# Altium schematic symbol library CapChipCer.SchLib: 223 symbols (part 1 of 2)
Pins are listed as number, name and electrical type; pins without a type are passive.

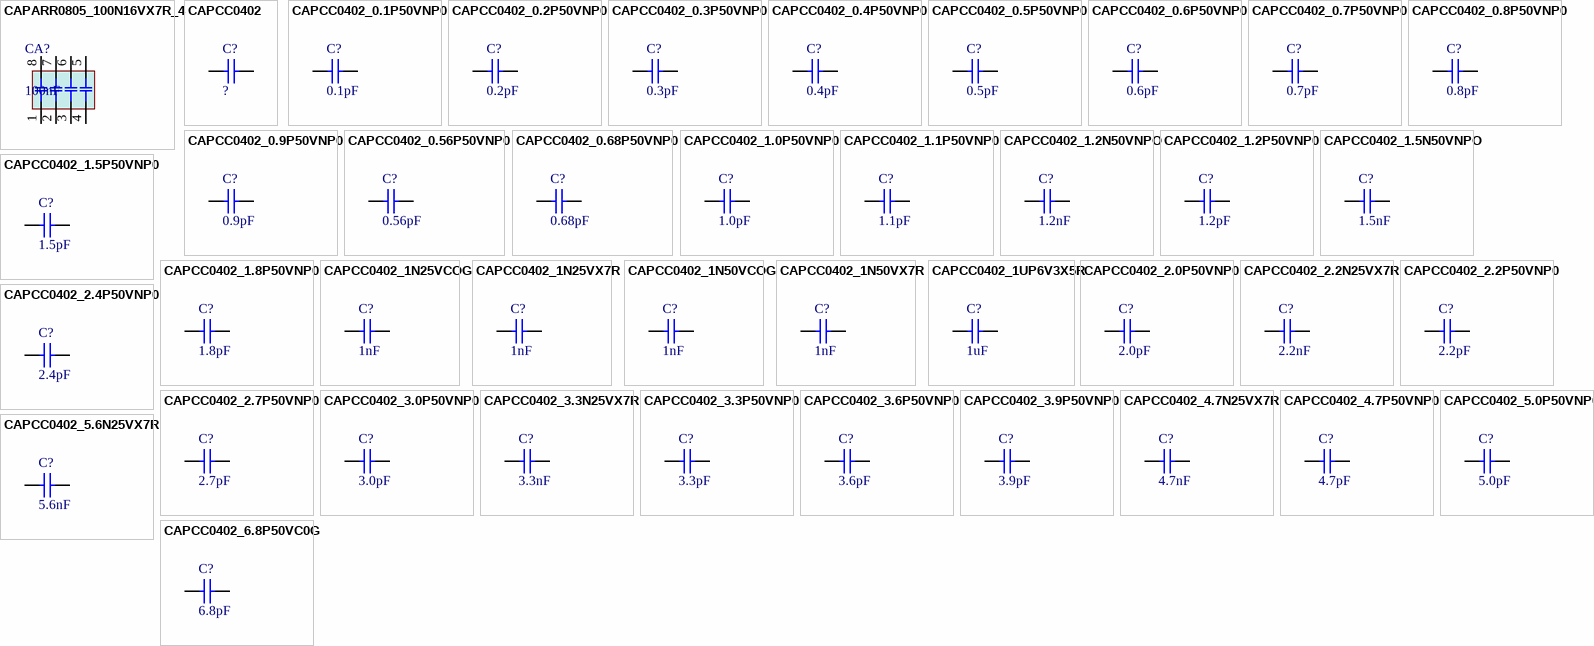
[diagram p0: symbols CAPARR0805_100N16VX7R_4 to CAPCC0402_6.8P50VC0G]

## CAPARR0805_100N16VX7R_4
designator CA?, comment 100nF
Capacitor chip ceramic array 0805; Manufacturer: Murata; Manufacturer No: GNM214R71C104MA01D; Comment2: x4 16V X7R; Sort: 210; Tech: SMDR; Package: Cap Chip Array 0805; Price: 0.28; Supplier: Digi-Key; Supplier No: 490-6082-1-ND
footprint CCAR0805 (Chip capacitor  array 0805)
pins: 1, 2, 3, 4, 5, 6, 7, 8

## CAPCC0402
designator C?, comment ?
Capacitor chip ceramic 0402; Comment2: xxV X7R; Sort: 210; Tech: SMDR; Package: Cap Chip 0402; Price: 0
footprint CC0402-1 (Chip kondenzator 0402)
signal-integrity model Model Name (Model Description)
footprint CC0402RF1 (Chip capacitor 0402 RF pad)
footprint CC0402RF1R (Chip capacitor 0402 RF ROUND pad)
pins: 1, 2

## CAPCC0402_0.1P50VNP0
designator C?, comment 0.1pF
Capacitor chip ceramic 0402; Comment2: 50V NP0 +-0.05pF; Sort: 210; Tech: SMDR; Package: Cap Chip 0402; Price: 0
footprint CC0402-1 (Chip capacitor 0402)
signal-integrity model Model Name (Model Description)
footprint CC0402RF1 (Chip capacitor 0402 RF pad)
pins: 1, 2

## CAPCC0402_0.2P50VNP0
designator C?, comment 0.2pF
Capacitor chip ceramic 0402; Manufacturer: Johanson Technology, Farnell; Manufacturer No: 500R07S0R2AV4T, 1650776; Comment2: 50V NP0 +-0.05pF; Sort: 210; Tech: SMDR; Package: Cap Chip 0402; Price: 0
footprint CC0402-1 (Chip capacitor 0402)
signal-integrity model Model Name (Model Description)
footprint CC0402RF1 (Chip capacitor 0402 RF pad)
pins: 1, 2

## CAPCC0402_0.3P50VNP0
designator C?, comment 0.3pF
Capacitor chip ceramic 0402; Manufacturer: Johanson Technology, Farnell; Manufacturer No: 500R07S0R3AV4T, 1433461; Comment2: 25V NP0 +-0.05pF; Sort: 210; Tech: SMDR; Package: Cap Chip 0402; Price: 0
footprint CC0402-1 (Chip capacitor 0402)
signal-integrity model Model Name (Model Description)
footprint CC0402RF1 (Chip capacitor 0402 RF pad)
pins: 1, 2

## CAPCC0402_0.4P50VNP0
designator C?, comment 0.4pF
Capacitor chip ceramic 0402; Manufacturer: Johanson Technology, Farnell; Manufacturer No: 500R07S0R4AV4T, 1692278; Comment2: 50V NP0 +-0.05pF; Sort: 210; Tech: SMDR; Package: Cap Chip 0402; Price: 0
footprint CC0402-1 (Chip capacitor 0402)
signal-integrity model Model Name (Model Description)
footprint CC0402RF1 (Chip capacitor 0402 RF pad)
pins: 1, 2

## CAPCC0402_0.5P50VNP0
designator C?, comment 0.5pF
Capacitor chip ceramic 0402; Manufacturer: Johanson Technology, Farnell; Manufacturer No: 500R07S0R5AV4T, 1650777; Comment2: 50V NP0 +-0.05pF; Sort: 210; Tech: SMDR; Package: Cap Chip 0402; Price: 0
footprint CC0402-1 (Chip capacitor 0402)
signal-integrity model Model Name (Model Description)
footprint CC0402RF1 (Chip capacitor 0402 RF pad)
pins: 1, 2

## CAPCC0402_0.6P50VNP0
designator C?, comment 0.6pF
Capacitor chip ceramic 0402; Manufacturer: Johanson Technology, Farnell; Manufacturer No: 500R07S0R6AV4T, 1434383; Comment2: 50V NP0 +-0.05pF; Sort: 210; Tech: SMDR; Package: Cap Chip 0402; Price: 0
footprint CC0402-1 (Chip capacitor 0402)
signal-integrity model Model Name (Model Description)
footprint CC0402RF1 (Chip capacitor 0402 RF pad)
pins: 1, 2

## CAPCC0402_0.7P50VNP0
designator C?, comment 0.7pF
Capacitor chip ceramic 0402; Manufacturer: Johanson Technology, Farnell; Manufacturer No: 500R07S0R7AV4T, 1650778; Comment2: 50V NP0 +-0.05pF; Sort: 210; Tech: SMDR; Package: Cap Chip 0402; Price: 0
footprint CC0402-1 (Chip capacitor 0402)
signal-integrity model Model Name (Model Description)
footprint CC0402RF1 (Chip capacitor 0402 RF pad)
pins: 1, 2

## CAPCC0402_0.8P50VNP0
designator C?, comment 0.8pF
Capacitor chip ceramic 0402; Manufacturer: Johanson Technology, Farnell; Manufacturer No: 500R07S0R8AV4T, 1436779; Comment2: 50V NP0 +-0.05pF; Sort: 210; Tech: SMDR; Package: Cap Chip 0402; Price: 0
footprint CC0402-1 (Chip capacitor 0402)
signal-integrity model Model Name (Model Description)
footprint CC0402RF1 (Chip capacitor 0402 RF pad)
pins: 1, 2

## CAPCC0402_0.9P50VNP0
designator C?, comment 0.9pF
Capacitor chip ceramic 0402; Manufacturer: Johanson Technology, Farnell; Manufacturer No: 500R07S0R9BV4T, 1433661; Comment2: 50V NP0 +-0.1pF; Sort: 210; Tech: SMDR; Package: Cap Chip 0402; Price: 0
footprint CC0402-1 (Chip capacitor 0402)
signal-integrity model Model Name (Model Description)
footprint CC0402RF1 (Chip capacitor 0402 RF pad)
pins: 1, 2

## CAPCC0402_0.56P50VNP0
designator C?, comment 0.56pF
Capacitor chip ceramic 0402; Manufacturer: YAGEO (PHYCOMP), Farnell; Manufacturer No: CC0402CRNPO9BNR56, 3019093; Comment2: 50V NP0 +-5%; Sort: 210; Tech: SMDR; Package: Cap Chip 0402; Price: 0
footprint CC0402-1 (Chip capacitor 0402)
signal-integrity model Model Name (Model Description)
footprint CC0402RF1 (Chip capacitor 0402 RF pad)
pins: 1, 2

## CAPCC0402_0.68P50VNP0
designator C?, comment 0.68pF
Capacitor chip ceramic 0402; Comment2: 50V NP0 +-5%; Sort: 210; Tech: SMDR; Package: Cap Chip 0402; Price: 0
footprint CC0402-1 (Chip capacitor 0402)
signal-integrity model Model Name (Model Description)
footprint CC0402RF1 (Chip capacitor 0402 RF pad)
pins: 1, 2

## CAPCC0402_1.0P50VNP0
designator C?, comment 1.0pF
Capacitor chip ceramic 0402; Manufacturer: Murata; Manufacturer No: GRM1555C1H1R0CA01D; Comment2: 50V NP0 +-0.1pF; Sort: 210; Tech: SMDR; Package: Cap Chip 0402; Price: 0.1; Supplier: Digi-Key; Supplier No: 490-3199-1-ND
footprint CC0402-1 (Chip capacitor 0402)
signal-integrity model Model Name (Model Description)
footprint CC0402RF1 (Chip capacitor 0402 RF pad)
pins: 1, 2

## CAPCC0402_1.1P50VNP0
designator C?, comment 1.1pF
Capacitor chip ceramic 0402; Manufacturer: Johanson Technology, Farnell; Manufacturer No: 500R07S1R1BV4T, 1434385; Comment2: 50V NP0 +-0.1pF; Sort: 210; Tech: SMDR; Package: Cap Chip 0402; Price: 0
footprint CC0402-1 (Chip capacitor 0402)
signal-integrity model Model Name (Model Description)
footprint CC0402RF1 (Chip capacitor 0402 RF pad)
pins: 1, 2

## CAPCC0402_1.2N50VNPO
designator C?, comment 1.2nF
Capacitor chip ceramic 0402; Manufacturer: Kemet, Farnell; Manufacturer No: C0402C122J5GACTU, 1800803; Comment2: 50V NPO 5%; Sort: 210; Tech: SMDR; Package: Cap Chip 0402; Price: 0
footprint CC0402-1 (Chip capacitor 0402)
signal-integrity model Model Name (Model Description)
footprint CC0402RF1 (Chip capacitor 0402 RF pad)
pins: 1, 2

## CAPCC0402_1.2P50VNP0
designator C?, comment 1.2pF
Capacitor chip ceramic 0402; Manufacturer: Johanson Technology, Farnell; Manufacturer No: 500R07S1R2BV4T, 1650785; Comment2: 50V NP0 +-0.1pF; Sort: 210; Tech: SMDR; Package: Cap Chip 0402; Price: 0
footprint CC0402-1 (Chip capacitor 0402)
signal-integrity model Model Name (Model Description)
footprint CC0402RF1 (Chip capacitor 0402 RF pad)
pins: 1, 2

## CAPCC0402_1.5N50VNPO
designator C?, comment 1.5nF
Capacitor chip ceramic 0402; Manufacturer: Kemet, Farnell; Manufacturer No: C0402C152J5GAC 7867, 1535561; Comment2: 50V NOP 5%; Sort: 210; Tech: SMDR; Package: Cap Chip 0402; Price: 0
footprint CC0402-1 (Chip capacitor 0402)
signal-integrity model Model Name (Model Description)
footprint CC0402RF1 (Chip capacitor 0402 RF pad)
pins: 1, 2

## CAPCC0402_1.5P50VNP0
designator C?, comment 1.5pF
Capacitor chip ceramic 0402; Manufacturer: Johanson Technology, Farnell; Manufacturer No: 500R07S1R5BV4T,  1885305; Comment2: 50V NP0 +-0.1pF; Sort: 210; Tech: SMDR; Package: Cap Chip 0402; Price: 0.12
footprint CC0402-1 (Chip capacitor 0402)
signal-integrity model Model Name (Model Description)
footprint CC0402RF1 (Chip capacitor 0402 RF pad)
pins: 1, 2

## CAPCC0402_1.8P50VNP0
designator C?, comment 1.8pF
Capacitor chip ceramic 0402; Manufacturer: Johanson Technology, Farnell; Manufacturer No: 500R07S1R8BV4T, 1650788; Comment2: 50V NP0 +-0.1pF; Sort: 210; Tech: SMDR; Package: Cap Chip 0402; Price: 0
footprint CC0402-1 (Chip capacitor 0402)
signal-integrity model Model Name (Model Description)
footprint CC0402RF1 (Chip capacitor 0402 RF pad)
pins: 1, 2

## CAPCC0402_1N25VCOG
designator C?, comment 1nF
Capacitor chip ceramic 0402; Manufacturer: Kemet, Farnell; Manufacturer No: C0402C102J3GAC, 1457725; Comment2: 25V COG 5%; Sort: 210; Tech: SMDR; Package: Cap Chip 0402; Price: 0
signal-integrity model Model Name (Model Description)
footprint CC0402RF1 (Chip capacitor 0402 RF pad)
footprint CC0402-1 (Chip capacitor 0402)
footprint CC0402RF1R (Chip capacitor 0402 RF ROUND pad)
pins: 1, 2

## CAPCC0402_1N25VX7R
designator C?, comment 1nF
Capacitor chip ceramic 0402; Comment2: 50V X7R 10%; Sort: 210; Tech: SMDR; Package: Cap Chip 0402; Price: 0
footprint CC0402-1 (Chip capacitor 0402)
signal-integrity model Model Name (Model Description)
footprint CC0402RF1 (Chip capacitor 0402 RF pad)
footprint CC0402RF1R (Chip capacitor 0402 RF ROUND pad)
pins: 1, 2

## CAPCC0402_1N50VCOG
designator C?, comment 1nF
Capacitor chip ceramic 0402; Comment2: 50V COG 5%; Sort: 210; Tech: SMDR; Package: Cap Chip 0402; Price: 0
footprint CC0402-1 (Chip capacitor 0402)
signal-integrity model Model Name (Model Description)
footprint CC0402RF1 (Chip capacitor 0402 RF pad)
footprint CC0402RF1R (Chip capacitor 0402 RF ROUND pad)
pins: 1, 2

## CAPCC0402_1N50VX7R
designator C?, comment 1nF
Capacitor chip ceramic 0402; Comment2: 50V X7R 10%; Sort: 210; Tech: SMDR; Package: Cap Chip 0402; Price: 0
footprint CC0402-1 (Chip capacitor 0402)
signal-integrity model Model Name (Model Description)
footprint CC0402RF1 (Chip capacitor 0402 RF pad)
footprint CC0402RF1R (Chip capacitor 0402 RF ROUND pad)
pins: 1, 2

## CAPCC0402_1UP6V3X5R
designator C?, comment 1uF
Capacitor chip ceramic 0402; Manufacturer: Murata; Manufacturer No: GRM155R60J105KE19D; Comment2: 50V C0G 10%; Sort: 210; Tech: SMDR; Package: Cap Chip 0402; Price: 0.1; Supplier: Digi-Key; Supplier No: 490-1320-1-ND
footprint CC0402-1 (Chip capacitor 0402)
signal-integrity model Model Name (Model Description)
footprint CC0402RF1 (Chip capacitor 0402 RF pad)
pins: 1, 2

## CAPCC0402_2.0P50VNP0
designator C?, comment 2.0pF
Capacitor chip ceramic 0402; Manufacturer: Johanson Technology, Farnell; Manufacturer No: 500R07S2R0BV4T, 1432927; Comment2: 50V NP0 +-0.1pF; Sort: 210; Tech: SMDR; Package: Cap Chip 0402; Price: 0
footprint CC0402-1 (Chip capacitor 0402)
signal-integrity model Model Name (Model Description)
footprint CC0402RF1 (Chip capacitor 0402 RF pad)
pins: 1, 2

## CAPCC0402_2.2N25VX7R
designator C?, comment 2.2nF
Capacitor chip ceramic 0402; Comment2: 25V X7R 10%; Sort: 210; Tech: SMDR; Package: Cap Chip 0402; Price: 0
footprint CC0402-1 (Chip capacitor 0402)
signal-integrity model Model Name (Model Description)
pins: 1, 2

## CAPCC0402_2.2P50VNP0
designator C?, comment 2.2pF
Capacitor chip ceramic 0402; Manufacturer: Johanson Technology, Farnell; Manufacturer No: 500R07S2R2BV4T, 1692280; Comment2: 50V NP0 +-0.1pF; Sort: 210; Tech: SMDR; Package: Cap Chip 0402; Price: 0
footprint CC0402-1 (Chip capacitor 0402)
signal-integrity model Model Name (Model Description)
footprint CC0402RF1 (Chip capacitor 0402 RF pad)
pins: 1, 2

## CAPCC0402_2.4P50VNP0
designator C?, comment 2.4pF
Capacitor chip ceramic 0402; Manufacturer: Johanson Technology, Farnell; Manufacturer No: 500R07S2R4BV4T, 1692281; Comment2: 50V NP0 +-0.1pF; Sort: 210; Tech: SMDR; Package: Cap Chip 0402; Price: 0
footprint CC0402-1 (Chip capacitor 0402)
signal-integrity model Model Name (Model Description)
footprint CC0402RF1 (Chip capacitor 0402 RF pad)
pins: 1, 2

## CAPCC0402_2.7P50VNP0
designator C?, comment 2.7pF
Capacitor chip ceramic 0402; Manufacturer: Johanson Technology, Farnell; Manufacturer No: 500R07S2R7BV4T, 1650792; Comment2: 50V NP0 +-0.1pF; Sort: 210; Tech: SMDR; Package: Cap Chip 0402; Price: 0
footprint CC0402-1 (Chip capacitor 0402)
signal-integrity model Model Name (Model Description)
footprint CC0402RF1 (Chip capacitor 0402 RF pad)
pins: 1, 2

## CAPCC0402_3.0P50VNP0
designator C?, comment 3.0pF
Capacitor chip ceramic 0402; Manufacturer: Johanson Technology, Farnell; Manufacturer No: 500R07S3R0BV4T, 1692282; Comment2: 50V NP0 +-0.1pF; Sort: 210; Tech: SMDR; Package: Cap Chip 0402; Price: 0
footprint CC0402-1 (Chip capacitor 0402)
signal-integrity model Model Name (Model Description)
footprint CC0402RF1 (Chip capacitor 0402 RF pad)
pins: 1, 2

## CAPCC0402_3.3N25VX7R
designator C?, comment 3.3nF
Capacitor chip ceramic 0402; Comment2: 25V X7R 10%; Sort: 210; Tech: SMDR; Package: Cap Chip 0402; Price: 0
footprint CC0402-1 (Chip capacitor 0402)
signal-integrity model Model Name (Model Description)
pins: 1, 2

## CAPCC0402_3.3P50VNP0
designator C?, comment 3.3pF
Capacitor chip ceramic 0402; Manufacturer: Johanson Technology, Farnell; Manufacturer No: 500R07S3R3BV4T, 1650793; Comment2: 50V NP0 +-0.1pF; Sort: 210; Tech: SMDR; Package: Cap Chip 0402; Price: 0
footprint CC0402-1 (Chip capacitor 0402)
signal-integrity model Model Name (Model Description)
footprint CC0402RF1 (Chip capacitor 0402 RF pad)
pins: 1, 2

## CAPCC0402_3.6P50VNP0
designator C?, comment 3.6pF
Capacitor chip ceramic 0402; Manufacturer: Johanson Technology, Farnell; Manufacturer No: 500R07S3R6BV4T, 1435020; Comment2: 50V NP0 +-0.1pF; Sort: 210; Tech: SMDR; Package: Cap Chip 0402; Price: 0
footprint CC0402-1 (Chip capacitor 0402)
signal-integrity model Model Name (Model Description)
footprint CC0402RF1 (Chip capacitor 0402 RF pad)
pins: 1, 2

## CAPCC0402_3.9P50VNP0
designator C?, comment 3.9pF
Capacitor chip ceramic 0402; Manufacturer: Johanson Technology, Farnell; Manufacturer No: 500R07S3R9BV4T, 1650794; Comment2: 50V NP0 +-0.1pF; Sort: 210; Tech: SMDR; Package: Cap Chip 0402; Price: 0
footprint CC0402-1 (Chip capacitor 0402)
signal-integrity model Model Name (Model Description)
footprint CC0402RF1 (Chip capacitor 0402 RF pad)
pins: 1, 2

## CAPCC0402_4.7N25VX7R
designator C?, comment 4.7nF
Capacitor chip ceramic 0402; Comment2: 25V X7R 10%; Sort: 210; Tech: SMDR; Package: Cap Chip 0402; Price: 0
footprint CC0402-1 (Chip capacitor 0402)
signal-integrity model Model Name (Model Description)
pins: 1, 2

## CAPCC0402_4.7P50VNP0
designator C?, comment 4.7pF
Capacitor chip ceramic 0402; Manufacturer: Johanson Technology, Farnell; Manufacturer No: 500R07S4R7BV4T, 1650795; Comment2: 50V NP0 +-0.1pF; Sort: 210; Tech: SMDR; Package: Cap Chip 0402; Price: 0
footprint CC0402-1 (Chip capacitor 0402)
signal-integrity model Model Name (Model Description)
footprint CC0402RF1 (Chip capacitor 0402 RF pad)
pins: 1, 2

## CAPCC0402_5.0P50VNP0
designator C?, comment 5.0pF
Capacitor chip ceramic 0402; Manufacturer: Multicomp, Farnell; Manufacturer No: MCCA000086, 1758935; Comment2: 50V NP0 +-0.25pF; Sort: 210; Tech: SMDR; Package: Cap Chip 0402; Price: 0
footprint CC0402-1 (Chip capacitor 0402)
signal-integrity model Model Name (Model Description)
footprint CC0402RF1 (Chip capacitor 0402 RF pad)
pins: 1, 2

## CAPCC0402_5.6N25VX7R
designator C?, comment 5.6nF
Capacitor chip ceramic 0402; Comment2: 25V X7R 10%; Sort: 210; Tech: SMDR; Package: Cap Chip 0402; Price: 0
footprint CC0402-1 (Chip capacitor 0402)
signal-integrity model Model Name (Model Description)
pins: 1, 2

## CAPCC0402_6.8P50VC0G
designator C?, comment 6.8pF
Capacitor chip ceramic 0402; Manufacturer: Kemet, Farnell; Manufacturer No: C0402C689C5GACTU, 1800799; Comment2: 50V C0G 10%; Sort: 210; Tech: SMDR; Package: Cap Chip 0402; Price: 0.04
footprint CC0402-1 (Chip capacitor 0402)
signal-integrity model Model Name (Model Description)
pins: 1, 2

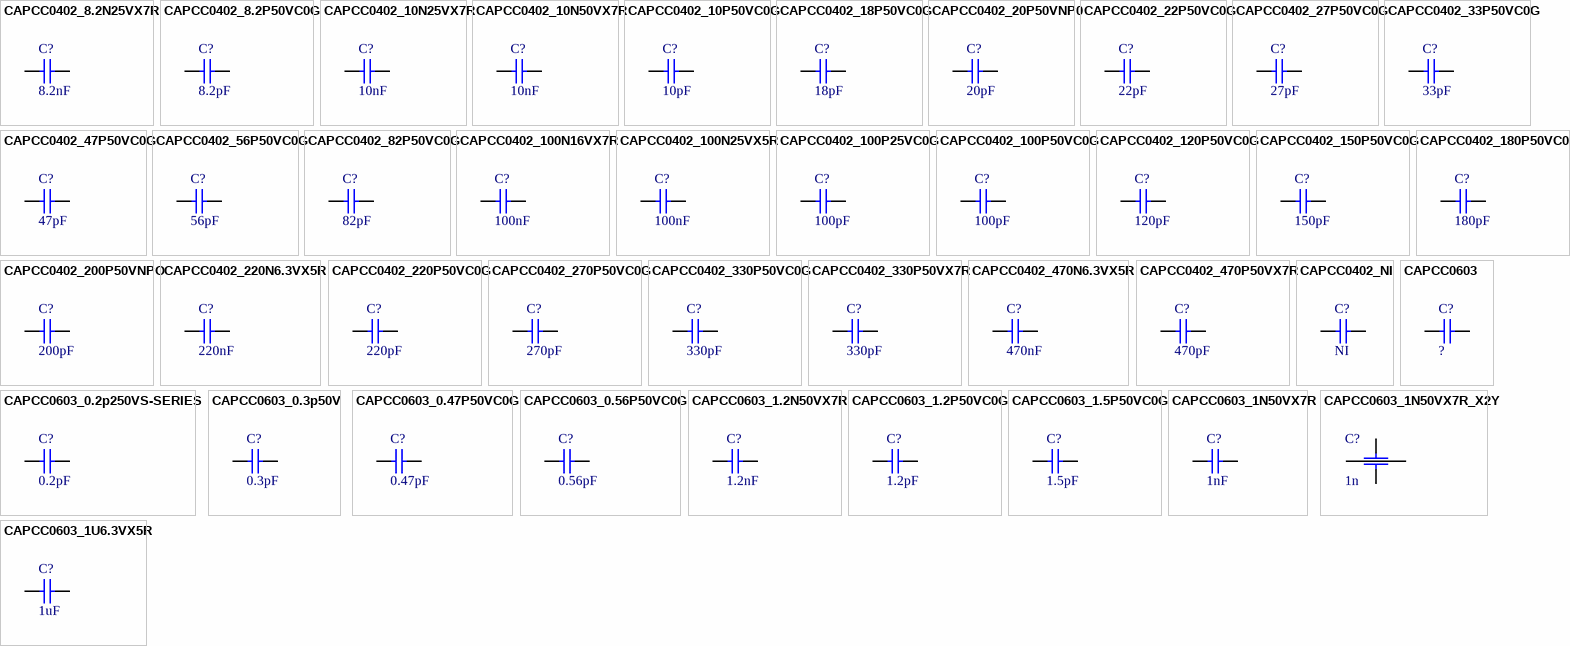
[diagram p1: symbols CAPCC0402_8.2N25VX7R to CAPCC0603_1U6.3VX5R]

## CAPCC0402_8.2N25VX7R
designator C?, comment 8.2nF
Capacitor chip ceramic 0402; Manufacturer: Kemet, Farnell; Manufacturer No: C0402C822K3RAC-TU 1650825; Comment2: 25V X7R 10%; Sort: 210; Tech: SMDR; Package: Cap Chip 0402; Price: 0
footprint CC0402-1 (Chip capacitor 0402)
signal-integrity model Model Name (Model Description)
pins: 1, 2

## CAPCC0402_8.2P50VC0G
designator C?, comment 8.2pF
Capacitor chip ceramic 0402; Manufacturer: AVX, Farnell; Manufacturer No: 04025A8R2CAT2A, 1327645; Comment2: 50V C0G 10%; Sort: 210; Tech: SMDR; Package: Cap Chip 0402; Price: 0
footprint CC0402-1 (Chip capacitor 0402)
signal-integrity model Model Name (Model Description)
pins: 1, 2

## CAPCC0402_10N25VX7R
designator C?, comment 10nF
Capacitor chip ceramic 0402; Comment2: 25V X7R 10%; Sort: 210; Tech: SMDR; Package: Cap Chip 0402; Price: 0
footprint CC0402-1 (Chip capacitor 0402)
signal-integrity model Model Name (Model Description)
pins: 1, 2

## CAPCC0402_10N50VX7R
designator C?, comment 10nF
Capacitor chip ceramic 0402; Manufacturer: Kemet; Manufacturer No: C0402C103K5RAC, 1414575; Comment2: 50V X7R 10%; Sort: 210; Tech: SMDR; Package: Cap Chip 0402; Price: 0
footprint CC0402-1 (Chip capacitor 0402)
signal-integrity model Model Name (Model Description)
pins: 1, 2

## CAPCC0402_10P50VC0G
designator C?, comment 10pF
Capacitor chip ceramic 0402; Manufacturer: AVX, Farnell; Manufacturer No: 04025A100DAT2A, 1327626; Comment2: 50V C0G 5%; Sort: 210; Tech: SMDR; Package: Cap Chip 0402; Price: 0
footprint CC0402-1 (Chip capacitor 0402)
signal-integrity model Model Name (Model Description)
pins: 1, 2

## CAPCC0402_18P50VC0G
designator C?, comment 18pF
Capacitor chip ceramic 0402; Comment2: 50V C0G 10%; Sort: 210; Tech: SMDR; Package: Cap Chip 0402; Price: 0
footprint CC0402-1 (Chip capacitor 0402)
signal-integrity model Model Name (Model Description)
pins: 1, 2

## CAPCC0402_20P50VNP0
designator C?, comment 20pF
Capacitor chip ceramic 0402; Manufacturer: Johanson Technology, Farnell; Manufacturer No: 500R07S200GV4T, 1650789; Comment2: 50V NP0 +-2%; Sort: 210; Tech: SMDR; Package: Cap Chip 0402; Price: 0
footprint CC0402-1 (Chip capacitor 0402)
signal-integrity model Model Name (Model Description)
footprint CC0402RF1 (Chip capacitor 0402 RF pad)
pins: 1, 2

## CAPCC0402_22P50VC0G
designator C?, comment 22pF
Capacitor chip ceramic 0402; Comment2: 50V C0G 10%; Sort: 210; Tech: SMDR; Package: Cap Chip 0402; Price: 0
footprint CC0402-1 (Chip capacitor 0402)
signal-integrity model Model Name (Model Description)
pins: 1, 2

## CAPCC0402_27P50VC0G
designator C?, comment 27pF
Capacitor chip ceramic 0402; Manufacturer: Kemet, Farnell; Manufacturer No: C0402C270J5GACTU, 1414584; Comment2: 50V C0G 5%; Sort: 210; Tech: SMDR; Package: Cap Chip 0402; Price: 0
footprint CC0402-1 (Chip capacitor 0402)
signal-integrity model Model Name (Model Description)
pins: 1, 2

## CAPCC0402_33P50VC0G
designator C?, comment 33pF
Capacitor chip ceramic 0402; Comment2: 50V C0G 10%; Sort: 210; Tech: SMDR; Package: Cap Chip 0402; Price: 0
footprint CC0402-1 (Chip capacitor 0402)
signal-integrity model Model Name (Model Description)
pins: 1, 2

## CAPCC0402_47P50VC0G
designator C?, comment 47pF
Capacitor chip ceramic 0402; Comment2: 50V C0G 10%; Sort: 210; Tech: SMDR; Package: Cap Chip 0402; Price: 0
footprint CC0402-1 (Chip capacitor 0402)
signal-integrity model Model Name (Model Description)
pins: 1, 2

## CAPCC0402_56P50VC0G
designator C?, comment 56pF
Capacitor chip ceramic 0402; Comment2: 50V C0G 10%; Sort: 210; Tech: SMDR; Package: Cap Chip 0402; Price: 0
footprint CC0402-1 (Chip capacitor 0402)
signal-integrity model Model Name (Model Description)
pins: 1, 2

## CAPCC0402_82P50VC0G
designator C?, comment 82pF
Capacitor chip ceramic 0402; Comment2: 50V C0G 10%; Sort: 210; Tech: SMDR; Package: Cap Chip 0402; Price: 0
footprint CC0402-1 (Chip capacitor 0402)
signal-integrity model Model Name (Model Description)
pins: 1, 2

## CAPCC0402_100N16VX7R
designator C?, comment 100nF
Capacitor chip ceramic 0402; Manufacturer: Murata; Manufacturer No: GRM155R71C104KA88D; Comment2: 16V X7R 10%; Sort: 210; Tech: SMDR; Package: Cap Chip 0402; Price: 0.1; Supplier: Digi-Key; Supplier No: 490-3261-1-ND
footprint CC0402-1 (Chip capacitor 0402)
signal-integrity model Model Name (Model Description)
pins: 1, 2

## CAPCC0402_100N25VX5R
designator C?, comment 100nF
Capacitor chip ceramic 0402; Manufacturer: TDK, Farnell; Manufacturer No: C1005X5R1E104K, 1844123; Comment2: 25V X5R 10%; Sort: 210; Tech: SMDR; Package: Cap Chip 0402; Price: 0.01
footprint CC0402-1 (Chip capacitor 0402)
signal-integrity model Model Name (Model Description)
pins: 1, 2

## CAPCC0402_100P25VC0G
designator C?, comment 100pF
Capacitor chip ceramic 0402; Manufacturer: AVX, Farnell; Manufacturer No: 04023A101JAT2A, 1327622; Comment2: 25V NPO 10%; Sort: 210; Tech: SMDR; Package: Cap Chip 0402; Price: 0.035
footprint CC0402-1 (Chip capacitor 0402)
signal-integrity model Model Name (Model Description)
pins: 1, 2

## CAPCC0402_100P50VC0G
designator C?, comment 100pF
Capacitor chip ceramic 0402; Comment2: 50V C0G 10%; Sort: 210; Tech: SMDR; Package: Cap Chip 0402; Price: 0.035
footprint CC0402-1 (Chip capacitor 0402)
signal-integrity model Model Name (Model Description)
pins: 1, 2

## CAPCC0402_120P50VC0G
designator C?, comment 120pF
Capacitor chip ceramic 0402; Comment2: 50V C0G 10%; Sort: 210; Tech: SMDR; Package: Cap Chip 0402; Price: 0
footprint CC0402-1 (Chip capacitor 0402)
signal-integrity model Model Name (Model Description)
pins: 1, 2

## CAPCC0402_150P50VC0G
designator C?, comment 150pF
Capacitor chip ceramic 0402; Comment2: 50V C0G 10%; Sort: 210; Tech: SMDR; Package: Cap Chip 0402; Price: 0
footprint CC0402-1 (Chip capacitor 0402)
signal-integrity model Model Name (Model Description)
pins: 1, 2

## CAPCC0402_180P50VC0G
designator C?, comment 180pF
Capacitor chip ceramic 0402; Comment2: 50V C0G 5%; Sort: 210; Tech: SMDR; Package: Cap Chip 0402; Price: 0
footprint CC0402-1 (Chip capacitor 0402)
signal-integrity model Model Name (Model Description)
pins: 1, 2

## CAPCC0402_200P50VNPO
designator C?, comment 200pF
Capacitor chip ceramic 0402; Manufacturer: Murata; Manufacturer No: GRM1555C1H201JA01D; Comment2: 50V NPO 5%; Sort: 210; Tech: SMDR; Package: Cap Chip 0402; Price: 0.1; Supplier: Digi-Key; Supplier No: 490-3232-1-ND
footprint CC0402-1 (Chip capacitor 0402)
signal-integrity model Model Name (Model Description)
pins: 1, 2

## CAPCC0402_220N6.3VX5R
designator C?, comment 220nF
Capacitor chip ceramic 0402; Manufacturer: AVX; Manufacturer No: 04026D224KAT2A; Comment2: 6.3V X5R 10%; Sort: 210; Tech: SMDR; Package: Cap Chip 0402; Price: 0,23
footprint CC0402-1 (Chip capacitor 0402)
signal-integrity model Model Name (Model Description)
pins: 1, 2

## CAPCC0402_220P50VC0G
designator C?, comment 220pF
Capacitor chip ceramic 0402; Comment2: 50V C0G 10%; Sort: 210; Tech: SMDR; Package: Cap Chip 0402; Price: 0
footprint CC0402-1 (Chip capacitor 0402)
signal-integrity model Model Name (Model Description)
pins: 1, 2

## CAPCC0402_270P50VC0G
designator C?, comment 270pF
Capacitor chip ceramic 0402; Comment2: 50V C0G 5%; Sort: 210; Tech: SMDR; Package: Cap Chip 0402; Price: 0
footprint CC0402-1 (Chip capacitor 0402)
signal-integrity model Model Name (Model Description)
pins: 1, 2

## CAPCC0402_330P50VC0G
designator C?, comment 330pF
Capacitor chip ceramic 0402; Manufacturer: Kemet, Farnell; Manufacturer No: C0402C331J5GACTU, 1414589; Comment2: 50V C0G 5%; Sort: 210; Tech: SMDR; Package: Cap Chip 0402; Price: 0,03
footprint CC0402-1 (Chip capacitor 0402)
signal-integrity model Model Name (Model Description)
pins: 1, 2

## CAPCC0402_330P50VX7R
designator C?, comment 330pF
Capacitor chip ceramic 0402; Manufacturer: AVX, Farnell; Manufacturer No: 04025C331JAT2A,  1327650; Comment2: 50V C0G 10%; Sort: 210; Tech: SMDR; Package: Cap Chip 0402; Price: 0
footprint CC0402-1 (Chip capacitor 0402)
signal-integrity model Model Name (Model Description)
pins: 1, 2

## CAPCC0402_470N6.3VX5R
designator C?, comment 470nF
Capacitor chip ceramic 0402; Manufacturer: AVX, Farnell; Manufacturer No: 04026D474KAT2A, 1740587; Comment2: 6.3V X5R 10%; Sort: 210; Tech: SMDR; Package: Cap Chip 0402; Price: 0,14
footprint CC0402-1 (Chip capacitor 0402)
signal-integrity model Model Name (Model Description)
pins: 1, 2

## CAPCC0402_470P50VX7R
designator C?, comment 470pF
Capacitor chip ceramic 0402; Manufacturer: Kemet; Manufacturer No: C0402C471K5RACTU; Comment2: 50V X7R 5%; Sort: 210; Tech: SMDR; Package: Cap Chip 0402; Price: 0.1; Supplier: Digi-Key; Supplier No: 399-1025-1-ND
footprint CC0402-1 (Chip capacitor 0402)
signal-integrity model Model Name (Model Description)
footprint CC0402RF1 (Chip capacitor 0402 RF pad)
pins: 1, 2

## CAPCC0402_NI
designator C?, comment NI
Capacitor chip ceramic 0402; Sort: 210; Tech: SMDR; Package: Cap Chip 0402; Price: 0
footprint CC0402-1 (Chip capacitor 0402)
signal-integrity model Model Name (Model Description)
pins: 1, 2

## CAPCC0603
designator C?, comment ?
Capacitor chip ceramic 0603; Comment2: xxV X7R; Sort: 210; Tech: SMDR; Package: Cap Chip 0603; Price: 0
signal-integrity model Model Name (Model Description)
footprint CC0603-1 (Chip  capacitor  0603 (1608))
pins: 1, 2

## CAPCC0603_0.2p250VS-SERIES
designator C?, comment 0.2pF
Capacitor chip ceramic 0603; Manufacturer: Johanson Technologies, Farnell; Manufacturer No: 1650741; Comment2: 250V S 25%; Sort: 210; Tech: SMDR; Package: Cap Chip 0603; Price: 0
signal-integrity model Model Name (Model Description)
footprint CC0603-1 (Chip  capacitor  0603 (1608))
pins: 1, 2

## CAPCC0603_0.3p50V
designator C?, comment 0.3pF
Capacitor chip ceramic 0603; Manufacturer: AVX, Farnell; Manufacturer No: 1327596; Comment2: 50V S 10%; Sort: 210; Tech: SMDR; Package: Cap Chip 0603; Price: 0
signal-integrity model Model Name (Model Description)
footprint CC0603-1 (Chip  capacitor  0603 (1608))
pins: 1, 2

## CAPCC0603_0.47P50VC0G
designator C?, comment 0.47pF
Capacitor chip ceramic 0603; Manufacturer: Yageo, Farnell; Manufacturer No: CC0603CRNPO9BNR47, 721803; Comment2: 50V C0G 5% 30ppm; Sort: 210; Tech: SMDR; Package: Cap Chip 0603; Price: 0.035
signal-integrity model Model Name (Model Description)
footprint CC0603-1 (Chip  capacitor  0603 (1608))
footprint CC0603RF1 (Chip capacitor 0603 RF pad)
pins: 1, 2

## CAPCC0603_0.56P50VC0G
designator C?, comment 0.56pF
Capacitor chip ceramic 0603; Manufacturer: Yageo, Farnell; Manufacturer No: CC0603CRNPO9BNR56, 721815; Comment2: 50V C0G 5% 30ppm; Sort: 210; Tech: SMDR; Package: Cap Chip 0603; Price: 0.035
signal-integrity model Model Name (Model Description)
footprint CC0603-1 (Chip  capacitor  0603 (1608))
pins: 1, 2

## CAPCC0603_1.2N50VX7R
designator C?, comment 1.2nF
Capacitor chip ceramic 0603; Comment2: 50V X7R 10%; Sort: 210; Tech: SMDR; Package: Cap Chip 0603; Price: 0
signal-integrity model Model Name (Model Description)
footprint CC0603-1 (Chip  capacitor  0603 (1608))
pins: 1, 2

## CAPCC0603_1.2P50VC0G
designator C?, comment 1.2pF
Capacitor chip ceramic 0603; Comment2: 50V C0G 10%; Sort: 210; Tech: SMDR; Package: Cap Chip 0603; Price: 0.035
signal-integrity model Model Name (Model Description)
footprint CC0603-1 (Chip  capacitor  0603 (1608))
pins: 1, 2

## CAPCC0603_1.5P50VC0G
designator C?, comment 1.5pF
Capacitor chip ceramic 0603; Comment2: 50V C0G 10%; Sort: 210; Tech: SMDR; Package: Cap Chip 0603; Price: 0.035
signal-integrity model Model Name (Model Description)
footprint CC0603-1 (Chip  capacitor  0603 (1608))
pins: 1, 2

## CAPCC0603_1N50VX7R
designator C?, comment 1nF
Capacitor chip ceramic 0603; Comment2: 50V X7R 10%; Sort: 210; Tech: SMDR; Package: Cap Chip 0603; Price: 0
signal-integrity model Model Name (Model Description)
footprint CC0603-1 (Chip  capacitor  0603 (1608))
pins: 1, 2

## CAPCC0603_1N50VX7R_X2Y
designator C?, comment 1n
Capacitor chip ceramic 0603; Comment2: X2Y 50V X7R 20%; Sort: 210; Tech: SMDR; Package: Cap Chip 0603 X2Y; Price: 0.035
signal-integrity model Model Name (Model Description)
footprint CC0603-X2Y (Chip capacitor 0603 X2Y)
footprint CC0603-X2Y-1 (Chip capacitor 0603 X2Y)
footprint CC0603-X2Y-2 (Chip capacitor 0603 X2Y)
pins: 1, 2, 3, 3

## CAPCC0603_1U6.3VX5R
designator C?, comment 1uF
Capacitor chip ceramic 0603; Comment2: 6.3V X5R 10%; Sort: 210; Tech: SMDR; Package: Cap Chip 0603; Price: 0.07
signal-integrity model Model Name (Model Description)
footprint CC0603-1 (Chip  capacitor  0603 (1608))
pins: 1, 2

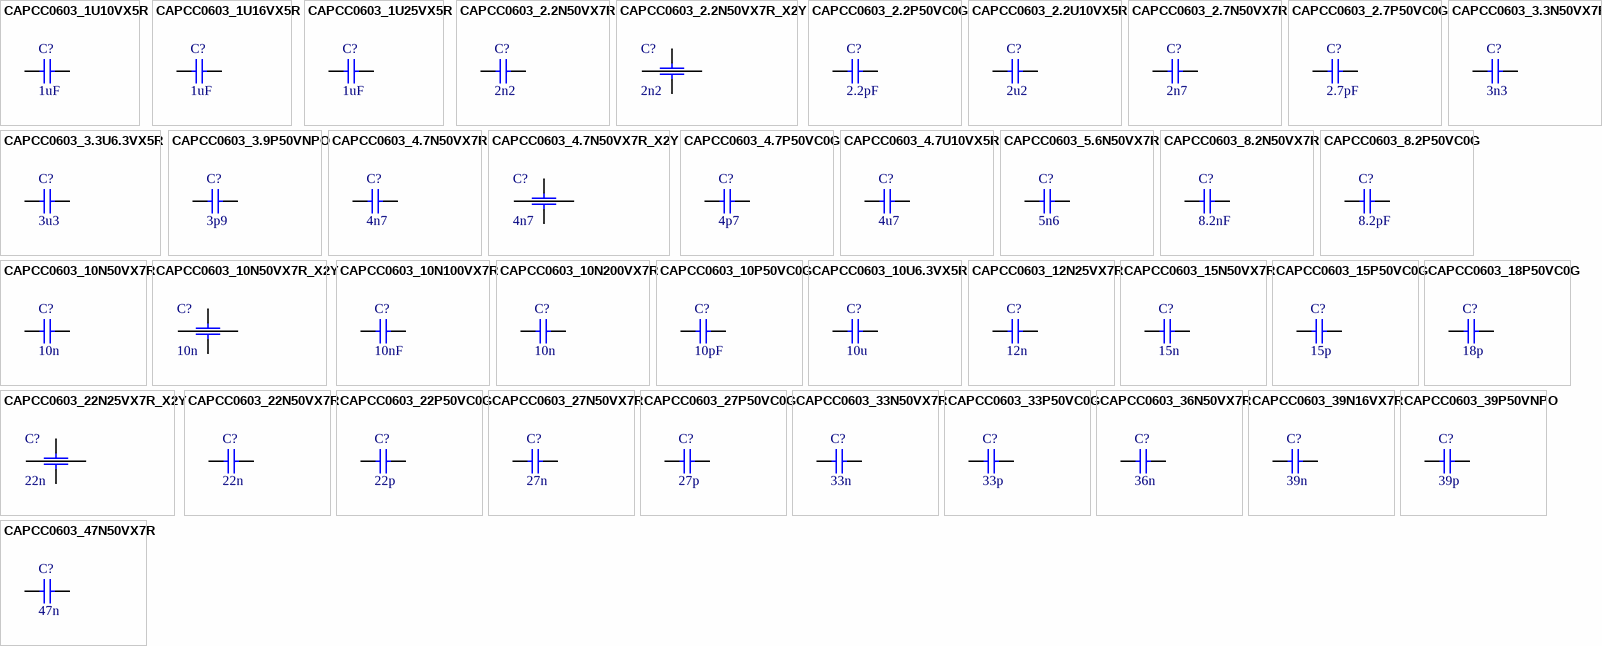
[diagram p2: symbols CAPCC0603_1U10VX5R to CAPCC0603_47N50VX7R]

## CAPCC0603_1U10VX5R
designator C?, comment 1uF
Capacitor chip ceramic 0603; Comment2: 10V X5R 10%; Sort: 210; Tech: SMDR; Package: Cap Chip 0603; Price: 0.07
signal-integrity model Model Name (Model Description)
footprint CC0603-1 (Chip  capacitor  0603 (1608))
pins: 1, 2

## CAPCC0603_1U16VX5R
designator C?, comment 1uF
Capacitor chip ceramic 0603; Comment2: 16V X5R 10%; Sort: 210; Tech: SMDR; Package: Cap Chip 0603; Price: 0.07
signal-integrity model Model Name (Model Description)
footprint CC0603-1 (Chip  capacitor  0603 (1608))
pins: 1, 2

## CAPCC0603_1U25VX5R
designator C?, comment 1uF
Capacitor chip ceramic 0603; Manufacturer: Kemet, Farnell; Manufacturer No: C0603C105K3PAC, 1288202; Comment2: 25V X5R 10%; Sort: 210; Tech: SMDR; Package: Cap Chip 0603; Price: 0.12
signal-integrity model Model Name (Model Description)
footprint CC0603-1 (Chip  capacitor  0603 (1608))
pins: 1, 2

## CAPCC0603_2.2N50VX7R
designator C?, comment 2n2
Capacitor chip ceramic 0603; Comment2: 50V X7R 10%; Sort: 210; Tech: SMDR; Package: Cap Chip 0603; Price: 0
signal-integrity model Model Name (Model Description)
footprint CC0603-1 (Chip  capacitor  0603 (1608))
pins: 1, 2

## CAPCC0603_2.2N50VX7R_X2Y
designator C?, comment 2n2
Capacitor chip ceramic 0603; Manufacturer: YAGEO, Farnell; Manufacturer No: CX 0603 MR X7R 0BB 222,  1688519; Comment2: X2Y 50V X7R 20%; Sort: 210; Tech: SMDR; Package: Cap Chip 0603 X2Y; Price: 0.035
signal-integrity model Model Name (Model Description)
footprint CC0603-X2Y (Chip capacitor 0603 X2Y)
footprint CC0603-X2Y-1 (Chip capacitor 0603 X2Y)
footprint CC0603-X2Y-2 (Chip capacitor 0603 X2Y)
pins: 1, 2, 3, 3

## CAPCC0603_2.2P50VC0G
designator C?, comment 2.2pF
Capacitor chip ceramic 0603; Manufacturer: Yageo, Farnell; Manufacturer No: CC0603CRNPO9BN2R2, 721888; Comment2: 50V C0G 5%; Sort: 210; Tech: SMDR; Package: Cap Chip 0603; Price: 0.035
signal-integrity model Model Name (Model Description)
footprint CC0603-1 (Chip  capacitor  0603 (1608))
footprint CC0603RF1 (Chip capacitor 0603 RF pad)
pins: 1, 2

## CAPCC0603_2.2U10VX5R
designator C?, comment 2u2
Capacitor chip ceramic 0603; Comment2: 10V X5R 10%; Sort: 210; Tech: SMDR; Package: Cap Chip 0603; Price: 0.07
signal-integrity model Model Name (Model Description)
footprint CC0603-1 (Chip  capacitor  0603 (1608))
pins: 1, 2

## CAPCC0603_2.7N50VX7R
designator C?, comment 2n7
Capacitor chip ceramic 0603; Comment2: 50V X7R 10%; Sort: 210; Tech: SMDR; Package: Cap Chip 0603; Price: 0
signal-integrity model Model Name (Model Description)
footprint CC0603-1 (Chip  capacitor  0603 (1608))
pins: 1, 2

## CAPCC0603_2.7P50VC0G
designator C?, comment 2.7pF
Capacitor chip ceramic 0603; Manufacturer: Farnell, Farnell; Manufacturer No: 06035A2R7CAT2A, 1612183; Comment2: 50V C0G 5% 30ppm; Sort: 210; Tech: SMDR; Package: Cap Chip 0603; Price: 0.035
signal-integrity model Model Name (Model Description)
footprint CC0603-1 (Chip  capacitor  0603 (1608))
pins: 1, 2

## CAPCC0603_3.3N50VX7R
designator C?, comment 3n3
Capacitor chip ceramic 0603; Comment2: 50V X7R 10%; Sort: 210; Tech: SMDR; Package: Cap Chip 0603; Price: 0
signal-integrity model Model Name (Model Description)
footprint CC0603-1 (Chip  capacitor  0603 (1608))
pins: 1, 2

## CAPCC0603_3.3U6.3VX5R
designator C?, comment 3u3
Capacitor chip ceramic 0603; Comment2: 6.3V X5R 10%; Sort: 210; Tech: SMDR; Package: Cap Chip 0603; Price: 0.07
signal-integrity model Model Name (Model Description)
footprint CC0603-1 (Chip  capacitor  0603 (1608))
pins: 1, 2

## CAPCC0603_3.9P50VNPO
designator C?, comment 3p9
Capacitor chip ceramic 0603; Manufacturer: Phycomp, Farnell; Manufacturer No: 2238 867 15398,  721918; Comment2: 50V NP0 10%; Sort: 210; Tech: SMDR; Package: Cap Chip 0603; Price: 0.035
signal-integrity model Model Name (Model Description)
footprint CC0603-1 (Chip  capacitor  0603 (1608))
pins: 1, 2

## CAPCC0603_4.7N50VX7R
designator C?, comment 4n7
Capacitor chip ceramic 0603; Comment2: 50V X7R 10%; Sort: 210; Tech: SMDR; Package: Cap Chip 0603; Price: 0
signal-integrity model Model Name (Model Description)
footprint CC0603-1 (Chip  capacitor  0603 (1608))
pins: 1, 2

## CAPCC0603_4.7N50VX7R_X2Y
designator C?, comment 4n7
Capacitor chip ceramic 0603; Manufacturer: Yageo; Manufacturer No: CX 0603 MR X7R 0BB 472,; Comment2: X2Y 50V X7R 20%; Sort: 210; Tech: SMDR; Package: Cap Chip 0603 X2Y; Price: 0.035
signal-integrity model Model Name (Model Description)
footprint CC0603-X2Y (Chip capacitor 0603 X2Y)
footprint CC0603-X2Y-1 (Chip capacitor 0603 X2Y)
footprint CC0603-X2Y-2 (Chip capacitor 0603 X2Y)
pins: 1, 2, 3, 3

## CAPCC0603_4.7P50VC0G
designator C?, comment 4p7
Capacitor chip ceramic 0603; Comment2: 50V C0G 10%; Sort: 210; Tech: SMDR; Package: Cap Chip 0603; Price: 0.035
signal-integrity model Model Name (Model Description)
footprint CC0603-1 (Chip  capacitor  0603 (1608))
footprint CC0603RF1 (Chip capacitor 0603 RF pad)
pins: 1, 2

## CAPCC0603_4.7U10VX5R
designator C?, comment 4u7
Capacitor chip ceramic 0603; Manufacturer: Kemet, Farnell; Manufacturer No: C0603C475K8PAC 7867,  1572625; Comment2: 10V X5R 10%; Sort: 210; Tech: SMDR; Package: Cap Chip 0603
signal-integrity model Model Name (Model Description)
footprint CC0603-1 (Chip  capacitor  0603 (1608))
pins: 1, 2

## CAPCC0603_5.6N50VX7R
designator C?, comment 5n6
Capacitor chip ceramic 0603; Comment2: 50V X7R 10%; Sort: 210; Tech: SMDR; Package: Cap Chip 0603; Price: 0
signal-integrity model Model Name (Model Description)
footprint CC0603-1 (Chip  capacitor  0603 (1608))
pins: 1, 2

## CAPCC0603_8.2N50VX7R
designator C?, comment 8.2nF
Capacitor chip ceramic 0603; Comment2: 50V X7R 10%; Sort: 210; Tech: SMDR; Package: Cap Chip 0603; Price: 0
signal-integrity model Model Name (Model Description)
footprint CC0603-1 (Chip  capacitor  0603 (1608))
pins: 1, 2

## CAPCC0603_8.2P50VC0G
designator C?, comment 8.2pF
Capacitor chip ceramic 0603; Comment2: 50V C0G 10%; Sort: 210; Tech: SMDR; Package: Cap Chip 0603; Price: 0.035
signal-integrity model Model Name (Model Description)
footprint CC0603-1 (Chip  capacitor  0603 (1608))
pins: 1, 2

## CAPCC0603_10N50VX7R
designator C?, comment 10n
Capacitor chip ceramic 0603; Comment2: 50V X7R 10%; Sort: 210; Tech: SMDR; Package: Cap Chip 0603; Price: 0
signal-integrity model Model Name (Model Description)
footprint CC0603-1 (Chip kondenzator 0603)
pins: 1, 2

## CAPCC0603_10N50VX7R_X2Y
designator C?, comment 10n
Capacitor chip ceramic 0603; Manufacturer: Yageo, Farnell; Manufacturer No: CX 0603 MR X7R 9BB 103, 1688520; Comment2: X2Y 50V X7R 20%; Sort: 210; Tech: SMDR; Package: Cap Chip 0603 X2Y; Price: 0.035
signal-integrity model Model Name (Model Description)
footprint CC0603-X2Y (Chip capacitor 0603 X2Y)
footprint CC0603-X2Y-1 (Chip capacitor 0603 X2Y)
footprint CC0603-X2Y-2 (Chip capacitor 0603 X2Y)
pins: 1, 2, 3, 3

## CAPCC0603_10N100VX7R
designator C?, comment 10nF
Capacitor chip ceramic 0603; Manufacturer: TDK; Manufacturer No: C1608X7R2A103K080AA; Comment2: 100V X7R 10%; Sort: 210; Tech: SMDR; Package: Cap Chip 0603; Price: 0.1; Supplier: Digi-Key; Supplier No: 445-1304-1-ND
signal-integrity model Model Name (Model Description)
footprint CC0603-1 (Chip  capacitor  0603 (1608))
pins: 1, 2

## CAPCC0603_10N200VX7R
designator C?, comment 10n
Capacitor chip ceramic 0603; Manufacturer: Kemet, Farnell; Manufacturer No: C0603C103K2RAC, 1288254; Comment2: 200V X7R 10%; Sort: 210; Tech: SMDR; Package: Cap Chip 0603; Price: 0
signal-integrity model Model Name (Model Description)
footprint CC0603-1 (Chip  capacitor  0603 (1608))
pins: 1, 2

## CAPCC0603_10P50VC0G
designator C?, comment 10pF
Capacitor chip ceramic 0603; Comment2: 50V C0G 5%; Sort: 210; Tech: SMDR; Package: Cap Chip 0603; Price: 0.035
signal-integrity model Model Name (Model Description)
footprint CC0603-1 (Chip  capacitor  0603 (1608))
pins: 1, 2

## CAPCC0603_10U6.3VX5R
designator C?, comment 10u
Capacitor chip ceramic 0603; Manufacturer: Kemet, Farnell; Manufacturer No: C0603C106M9PAC, 1288201; Comment2: 6.3V X5R 20%; Sort: 210; Tech: SMDR; Package: Cap Chip 0603; Price: 0.75
signal-integrity model Model Name (Model Description)
footprint CC0603-1 (Chip  capacitor  0603 (1608))
pins: 1, 2

## CAPCC0603_12N25VX7R
designator C?, comment 12n
Capacitor chip ceramic 0603; Manufacturer: Phycomp, Farnell; Manufacturer No: 2238 916 16637,  3019573; Comment2: 25V X7R 10%; Sort: 210; Tech: SMDR; Package: Cap Chip 0603; Price: 0
signal-integrity model Model Name (Model Description)
footprint CC0603-1 (Chip kondenzator 0603)
pins: 1, 2

## CAPCC0603_15N50VX7R
designator C?, comment 15n
Capacitor chip ceramic 0603; Comment2: 50V X7R 10%; Sort: 210; Tech: SMDR; Package: Cap Chip 0603; Price: 0
signal-integrity model Model Name (Model Description)
footprint CC0603-1 (Chip kondenzator 0603)
pins: 1, 2

## CAPCC0603_15P50VC0G
designator C?, comment 15p
Capacitor chip ceramic 0603; Comment2: 50V C0G 5%; Sort: 210; Tech: SMDR; Package: Cap Chip 0603; Price: 0.035
signal-integrity model Model Name (Model Description)
footprint CC0603-1 (Chip  capacitor  0603 (1608))
pins: 1, 2

## CAPCC0603_18P50VC0G
designator C?, comment 18p
Capacitor chip ceramic 0603; Comment2: 50V C0G 5%; Sort: 210; Tech: SMDR; Package: Cap Chip 0603; Price: 0.035
signal-integrity model Model Name (Model Description)
footprint CC0603-1 (Chip  capacitor  0603 (1608))
pins: 1, 2

## CAPCC0603_22N25VX7R_X2Y
designator C?, comment 22n
Capacitor chip ceramic 0603; Comment2: X2Y 25V X7R 20%; Sort: 210; Tech: SMDR; Package: Cap Chip 0603 X2Y; Price: 0.035
signal-integrity model Model Name (Model Description)
footprint CC0603-X2Y (Chip capacitor 0603 X2Y)
footprint CC0603-X2Y-1 (Chip capacitor 0603 X2Y)
footprint CC0603-X2Y-2 (Chip capacitor 0603 X2Y)
pins: 1, 2, 3, 3

## CAPCC0603_22N50VX7R
designator C?, comment 22n
Capacitor chip ceramic 0603; Comment2: 50V X7R  10%; Sort: 210; Tech: SMDR; Package: Cap Chip 0603; Price: 0.06
signal-integrity model Model Name (Model Description)
footprint CC0603-1 (Chip  capacitor  0603 (1608))
pins: 1, 2

## CAPCC0603_22P50VC0G
designator C?, comment 22p
Capacitor chip ceramic 0603; Comment2: 50V C0G 5%; Sort: 210; Tech: SMDR; Package: Cap Chip 0603; Price: 0.035
signal-integrity model Model Name (Model Description)
footprint CC0603-1 (Chip  capacitor  0603 (1608))
pins: 1, 2

## CAPCC0603_27N50VX7R
designator C?, comment 27n
Capacitor chip ceramic 0603; Comment2: 50V X7R  10%; Sort: 210; Tech: SMDR; Package: Cap Chip 0603; Price: 0.06
signal-integrity model Model Name (Model Description)
footprint CC0603-1 (Chip  capacitor  0603 (1608))
pins: 1, 2

## CAPCC0603_27P50VC0G
designator C?, comment 27p
Capacitor chip ceramic 0603; Comment2: 50V C0G 5%; Sort: 210; Tech: SMDR; Package: Cap Chip 0603; Price: 0.035
signal-integrity model Model Name (Model Description)
footprint CC0603-1 (Chip  capacitor  0603 (1608))
pins: 1, 2

## CAPCC0603_33N50VX7R
designator C?, comment 33n
Capacitor chip ceramic 0603; Comment2: 50V X7R  10%; Sort: 210; Tech: SMDR; Package: Cap Chip 0603; Price: 0.06
signal-integrity model Model Name (Model Description)
footprint CC0603-1 (Chip  capacitor  0603 (1608))
pins: 1, 2

## CAPCC0603_33P50VC0G
designator C?, comment 33p
Capacitor chip ceramic 0603; Comment2: 50V C0G 5%; Sort: 210; Tech: SMDR; Package: Cap Chip 0603; Price: 0.035
signal-integrity model Model Name (Model Description)
footprint CC0603-1 (Chip  capacitor  0603 (1608))
pins: 1, 2

## CAPCC0603_36N50VX7R
designator C?, comment 36n
Capacitor chip ceramic 0603; Comment2: 50V X7R  10%; Sort: 210; Tech: SMDR; Package: Cap Chip 0603; Price: 0.06
signal-integrity model Model Name (Model Description)
footprint CC0603-1 (Chip  capacitor  0603 (1608))
pins: 1, 2

## CAPCC0603_39N16VX7R
designator C?, comment 39n
Capacitor chip ceramic 0603; Comment2: 16V X7R  10%; Sort: 210; Tech: SMDR; Package: Cap Chip 0603; Price: 0.06
signal-integrity model Model Name (Model Description)
footprint CC0603-1 (Chip  capacitor  0603 (1608))
pins: 1, 2

## CAPCC0603_39P50VNPO
designator C?, comment 39p
Capacitor chip ceramic 0603; Manufacturer: Phycomp, Farnell; Manufacturer No: 2238 867 15399,  722030; Comment2: 50V NP0 5%; Sort: 210; Tech: SMDR; Package: Cap Chip 0603; Price: 0.035
signal-integrity model Model Name (Model Description)
footprint CC0603-1 (Chip  capacitor  0603 (1608))
pins: 1, 2

## CAPCC0603_47N50VX7R
designator C?, comment 47n
Capacitor chip ceramic 0603; Comment2: 50V X7R  10%; Sort: 210; Tech: SMDR; Package: Cap Chip 0603; Price: 0.06
signal-integrity model Model Name (Model Description)
footprint CC0603-1 (Chip  capacitor  0603 (1608))
pins: 1, 2

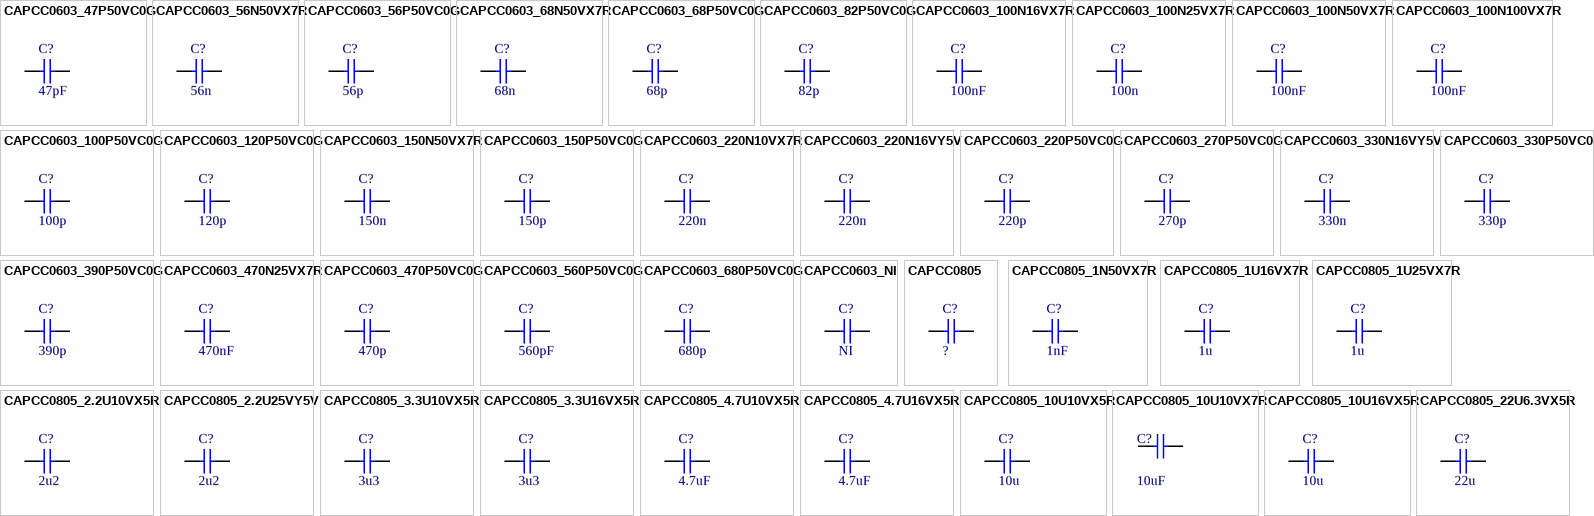
[diagram p3: symbols CAPCC0603_47P50VC0G to CAPCC0805_22U6.3VX5R]

## CAPCC0603_47P50VC0G
designator C?, comment 47pF
Capacitor chip ceramic 0603; Comment2: 50V C0G 5%; Sort: 210; Tech: SMDR; Package: Cap Chip 0603; Price: 0.035
signal-integrity model Model Name (Model Description)
footprint CC0603-1 (Chip  capacitor  0603 (1608))
pins: 1, 2

## CAPCC0603_56N50VX7R
designator C?, comment 56n
Capacitor chip ceramic 0603; Comment2: 50V X7R  10%; Sort: 210; Tech: SMDR; Package: Cap Chip 0603; Price: 0.06
signal-integrity model Model Name (Model Description)
footprint CC0603-1 (Chip  capacitor  0603 (1608))
pins: 1, 2

## CAPCC0603_56P50VC0G
designator C?, comment 56p
Capacitor chip ceramic 0603; Comment2: 50V C0G 5%; Sort: 210; Tech: SMDR; Package: Cap Chip 0603; Price: 0.035
signal-integrity model Model Name (Model Description)
footprint CC0603-1 (Chip  capacitor  0603 (1608))
pins: 1, 2

## CAPCC0603_68N50VX7R
designator C?, comment 68n
Capacitor chip ceramic 0603; Comment2: 50V X7R 10%; Sort: 210; Tech: SMDR; Package: Cap Chip 0603; Price: 0.06
signal-integrity model Model Name (Model Description)
footprint CC0603-1 (Chip  capacitor  0603 (1608))
pins: 1, 2

## CAPCC0603_68P50VC0G
designator C?, comment 68p
Capacitor chip ceramic 0603; Comment2: 50V C0G 5%; Sort: 210; Tech: SMDR; Package: Cap Chip 0603; Price: 0.035
signal-integrity model Model Name (Model Description)
footprint CC0603-1 (Chip  capacitor  0603 (1608))
pins: 1, 2

## CAPCC0603_82P50VC0G
designator C?, comment 82p
Capacitor chip ceramic 0603; Comment2: 50V C0G 5%; Sort: 210; Tech: SMDR; Package: Cap Chip 0603; Price: 0.035
signal-integrity model Model Name (Model Description)
footprint CC0603-1 (Chip  capacitor  0603 (1608))
pins: 1, 2

## CAPCC0603_100N16VX7R
designator C?, comment 100nF
Capacitor chip ceramic 0603; Comment2: 16V X7R 10%; Sort: 210; Tech: SMDR; Package: Cap Chip 0603; Price: 0.02
signal-integrity model Model Name (Model Description)
footprint CC0603-1 (Chip  capacitor  0603 (1608))
pins: 1, 2

## CAPCC0603_100N25VX7R
designator C?, comment 100n
Capacitor chip ceramic 0603; Comment2: 25V X7R 10%; Sort: 210; Tech: SMDR; Package: Cap Chip 0603; Price: 0.035
signal-integrity model Model Name (Model Description)
footprint CC0603-1 (Chip  capacitor  0603 (1608))
pins: 1, 2

## CAPCC0603_100N50VX7R
designator C?, comment 100nF
Capacitor chip ceramic 0603; Comment2: 50V X7R 10%; Sort: 210; Tech: SMDR; Package: Cap Chip 0603; Price: 0.02
signal-integrity model Model Name (Model Description)
footprint CC0603-1 (Chip  capacitor  0603 (1608))
pins: 1, 2

## CAPCC0603_100N100VX7R
designator C?, comment 100nF
Capacitor chip ceramic 0603; Manufacturer: Yageo; Manufacturer No: CC0603KRX7R0BB104; Comment2: 100V X7R 10%; Sort: 210; Tech: SMDR; Package: Cap Chip 0603; Price: 0.18; Supplier: Digi-Key; Supplier No: 311-1523-1-ND
signal-integrity model Model Name (Model Description)
footprint CC0603-1 (Chip  capacitor  0603 (1608))
pins: 1, 2

## CAPCC0603_100P50VC0G
designator C?, comment 100p
Capacitor chip ceramic 0603; Comment2: 50V C0G 5%; Sort: 210; Tech: SMDR; Package: Cap Chip 0603; Price: 0.035
signal-integrity model Model Name (Model Description)
footprint CC0603-1 (Chip  capacitor  0603 (1608))
pins: 1, 2

## CAPCC0603_120P50VC0G
designator C?, comment 120p
Capacitor chip ceramic 0603; Comment2: 50V C0G 5%; Sort: 210; Tech: SMDR; Package: Cap Chip 0603; Price: 0.035
signal-integrity model Model Name (Model Description)
footprint CC0603-1 (Chip  capacitor  0603 (1608))
pins: 1, 2

## CAPCC0603_150N50VX7R
designator C?, comment 150n
Capacitor chip ceramic 0603; Manufacturer: Kemet, Farnell; Manufacturer No: C0603C154K5RAC, 1414619; Comment2: 50V X7R 10%; Sort: 210; Tech: SMDR; Package: Cap Chip 0603; Price: 0
signal-integrity model Model Name (Model Description)
footprint CC0603-1 (Chip  capacitor  0603 (1608))
pins: 1, 2

## CAPCC0603_150P50VC0G
designator C?, comment 150p
Capacitor chip ceramic 0603; Comment2: 50V C0G 5%; Sort: 210; Tech: SMDR; Package: Cap Chip 0603; Price: 0.035
signal-integrity model Model Name (Model Description)
footprint CC0603-1 (Chip  capacitor  0603 (1608))
pins: 1, 2

## CAPCC0603_220N10VX7R
designator C?, comment 220n
Capacitor chip ceramic 0603; Comment2: 10V X7R 10%; Sort: 210; Tech: SMDR; Package: Cap Chip 0603; Price: 0
signal-integrity model Model Name (Model Description)
footprint CC0603-1 (Chip  capacitor  0603 (1608))
pins: 1, 2

## CAPCC0603_220N16VY5V
designator C?, comment 220n
Capacitor chip ceramic 0603; Comment2: 16V Y5V 10%; Sort: 210; Tech: SMDR; Package: Cap Chip 0603; Price: 0.07
signal-integrity model Model Name (Model Description)
footprint CC0603-1 (Chip  capacitor  0603 (1608))
pins: 1, 2

## CAPCC0603_220P50VC0G
designator C?, comment 220p
Capacitor chip ceramic 0603; Comment2: 50V C0G 5%; Sort: 210; Tech: SMDR; Package: Cap Chip 0603; Price: 0.035
signal-integrity model Model Name (Model Description)
footprint CC0603-1 (Chip  capacitor  0603 (1608))
pins: 1, 2

## CAPCC0603_270P50VC0G
designator C?, comment 270p
Capacitor chip ceramic 0603; Comment2: 50V C0G 5%; Sort: 210; Tech: SMDR; Package: Cap Chip 0603; Price: 0.035
signal-integrity model Model Name (Model Description)
footprint CC0603-1 (Chip  capacitor  0603 (1608))
pins: 1, 2

## CAPCC0603_330N16VY5V
designator C?, comment 330n
Capacitor chip ceramic 0603; Comment2: 16V Y5V 10%; Sort: 210; Tech: SMDR; Package: Cap Chip 0603; Price: 0.07
signal-integrity model Model Name (Model Description)
footprint CC0603-1 (Chip  capacitor  0603 (1608))
pins: 1, 2

## CAPCC0603_330P50VC0G
designator C?, comment 330p
Capacitor chip ceramic 0603; Manufacturer: Epcos; Manufacturer No: B37930K5331J60; Comment2: 50V C0G 5%; Sort: 210; Tech: SMDR; Package: Cap Chip 0603; Price: 0.035
signal-integrity model Model Name (Model Description)
footprint CC0603-1 (Chip  capacitor  0603 (1608))
pins: 1, 2

## CAPCC0603_390P50VC0G
designator C?, comment 390p
Capacitor chip ceramic 0603; Comment2: 50V C0G 5%; Sort: 210; Tech: SMDR; Package: Cap Chip 0603; Price: 0.035
signal-integrity model Model Name (Model Description)
footprint CC0603-1 (Chip  capacitor  0603 (1608))
pins: 1, 2

## CAPCC0603_470N25VX7R
designator C?, comment 470nF
Capacitor chip ceramic 0603; Manufacturer: Taiyo; Manufacturer No: TMK107B7474KA-TR; Comment2: 25V X7R 10%; Sort: 210; Tech: SMDR; Package: Cap Chip 0603; Price: 0.1; Supplier: Digi-Key; Supplier No: 587-2670-1-ND
signal-integrity model Model Name (Model Description)
footprint CC0603-1 (Chip  capacitor  0603 (1608))
pins: 1, 2

## CAPCC0603_470P50VC0G
designator C?, comment 470p
Capacitor chip ceramic 0603; Comment2: 50V C0G 5%; Sort: 210; Tech: SMDR; Package: Cap Chip 0603; Price: 0.035
signal-integrity model Model Name (Model Description)
footprint CC0603-1 (Chip  capacitor  0603 (1608))
pins: 1, 2

## CAPCC0603_560P50VC0G
designator C?, comment 560pF
Capacitor chip ceramic 0603; Comment2: 50V C0G 10%; Sort: 210; Tech: SMDR; Package: Cap Chip 0603; Price: 0
signal-integrity model Model Name (Model Description)
footprint CC0603-1 (Chip  capacitor  0603 (1608))
pins: 1, 2

## CAPCC0603_680P50VC0G
designator C?, comment 680p
Capacitor chip ceramic 0603; Comment2: 50V C0G 5%; Sort: 210; Tech: SMDR; Package: Cap Chip 0603; Price: 0.035
signal-integrity model Model Name (Model Description)
footprint CC0603-1 (Chip  capacitor  0603 (1608))
pins: 1, 2

## CAPCC0603_NI
designator C?, comment NI
Capacitor chip ceramic 0603; Sort: 210; Tech: SMDR; Package: Cap Chip 0603; Price: 0
signal-integrity model Model Name (Model Description)
footprint CC0603-1 (Chip  capacitor  0603 (1608))
pins: 1, 2

## CAPCC0805
designator C?, comment ?
Capacitor chip ceramic 0805; Comment2: xxV X7R; Sort: 210; Tech: SMDR; Package: Cap Chip 0805; Price: 0
signal-integrity model Model Name (Model Description)
footprint CC0805-1 (Chip capacitor  0805)
pins: 1, 2

## CAPCC0805_1N50VX7R
designator C?, comment 1nF
Capacitor chip ceramic 0805; Comment2: 50V X7R; Sort: 210; Tech: SMDR; Package: Cap Chip 0805; Price: 0
signal-integrity model Model Name (Model Description)
footprint CC0805-1 (Chip capacitor  0805)
pins: 1, 2

## CAPCC0805_1U16VX7R
designator C?, comment 1u
Capacitor chip ceramic 0805; Comment2: 16V X7R 10%; Sort: 210; Tech: SMDR; Package: Cap Chip 0805; Price: 0
signal-integrity model Model Name (Model Description)
footprint CC0805-1 (Chip capacitor  0805)
pins: 1, 2

## CAPCC0805_1U25VX7R
designator C?, comment 1u
Capacitor chip ceramic 0805; Comment2: 25V X7R 10%; Sort: 210; Tech: SMDR; Package: Cap Chip 0805; Price: 0
signal-integrity model Model Name (Model Description)
footprint CC0805-1 (Chip capacitor  0805)
pins: 1, 2

## CAPCC0805_2.2U10VX5R
designator C?, comment 2u2
Capacitor chip ceramic 0805; Comment2: 10V X5R 10%; Sort: 210; Tech: SMDR; Package: Cap Chip 0805; Price: 0
signal-integrity model Model Name (Model Description)
footprint CC0805-1 (Chip capacitor  0805)
pins: 1, 2